# Altium schematic symbol library DIMM-100.SchLib: 2 symbols
Pins are listed as number, name and electrical type; pins without a type are passive.

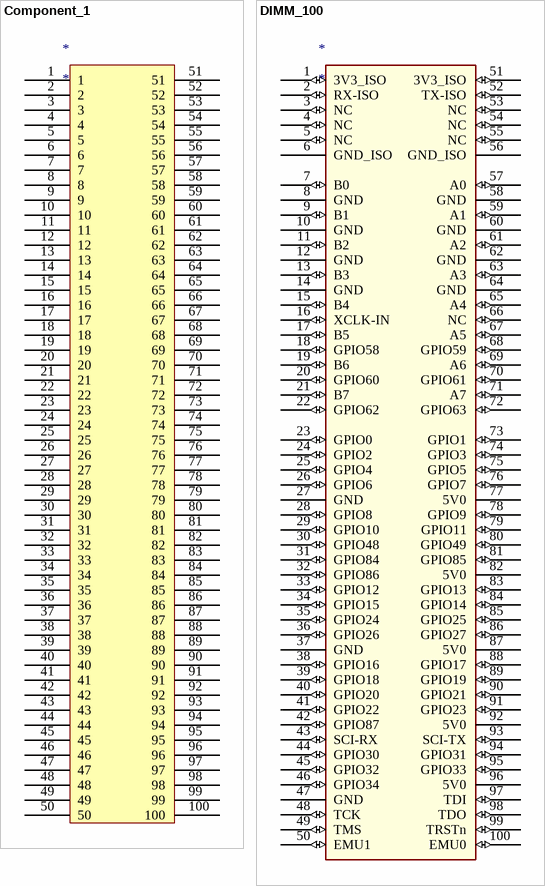
[diagram p0: symbols Component_1 to DIMM_100]

## Component_1
designator *
pins: 1, 2, 3, 4, 5, 6, 7, 8, 9, 10, 11, 12, 13, 14, 15, 16, 17, 18, 19, 20, 21, 22, 23, 24, 25, 26, 27, 28, 29, 30, 31, 32, 33, 34, 35, 36, 37, 38, 39, 40, 41, 42, 43, 44, 45, 46, 47, 48, 49, 50, 51, 52, 53, 54, 55, 56, 57, 58, 59, 60, 61, 62, 63, 64, 65, 66, 67, 68, 69, 70, 71, 72, 73, 74, 75, 76, 77, 78, 79, 80, 81, 82, 83, 84, 85, 86, 87, 88, 89, 90, 91, 92, 93, 94, 95, 96, 97, 98, 99, 100

## DIMM_100
designator *
pins: 1 3V3_ISO (io), 2 RX-ISO (io), 3 NC (io), 4 NC (io), 5 NC (io), 6 GND_ISO (power), 7 B0 (io), 8 GND (power), 9 B1 (io), 10 GND (power), 11 B2 (io), 12 GND (power), 13 B3 (io), 14 GND (power), 15 B4 (io), 16 XCLK-IN (io), 17 B5 (io), 18 GPIO58 (io), 19 B6 (io), 20 GPIO60 (io), 21 B7 (io), 22 GPIO62 (io), 23 GPIO0 (io), 24 GPIO2 (io), 25 GPIO4 (io), 26 GPIO6 (io), 27 GND (power), 28 GPIO8 (io), 29 GPIO10 (io), 30 GPIO48 (io), 31 GPIO84 (io), 32 GPIO86 (io), 33 GPIO12 (io), 34 GPIO15 (io), 35 GPIO24 (io), 36 GPIO26 (io), 37 GND (power), 38 GPIO16 (io), 39 GPIO18 (io), 40 GPIO20 (io), 41 GPIO22 (io), 42 GPIO87 (io), 43 SCI-RX (io), 44 GPIO30 (io), 45 GPIO32 (io), 46 GPIO34 (io), 47 GND (power), 48 TCK (io), 49 TMS (io), 50 EMU1 (io), 51 3V3_ISO (io), 52 TX-ISO (io), 53 NC (io), 54 NC (io), 55 NC (io), 56 GND_ISO (power), 57 A0 (io), 58 GND (power), 59 A1 (io), 60 GND (power), 61 A2 (io), 62 GND (power), 63 A3 (io), 64 GND (power), 65 A4 (io), 66 NC (io), 67 A5 (io), 68 GPIO59 (io), 69 A6 (io), 70 GPIO61 (io), 71 A7 (io), 72 GPIO63 (io), 73 GPIO1 (io), 74 GPIO3 (io), 75 GPIO5 (io), 76 GPIO7 (io), 77 5V0 (power), 78 GPIO9 (io), 79 GPIO11 (io), 80 GPIO49 (io), 81 GPIO85 (io), 82 5V0 (power), 83 GPIO13 (io), 84 GPIO14 (io), 85 GPIO25 (io), 86 GPIO27 (io), 87 5V0 (power), 88 GPIO17 (io), 89 GPIO19 (io), 90 GPIO21 (io), 91 GPIO23 (io), 92 5V0 (power), 93 SCI-TX (io), 94 GPIO31 (io), 95 GPIO33 (io), 96 5V0 (power), 97 TDI (io), 98 TDO (io), 99 TRSTn (io), 100 EMU0 (io)